# Altium integrated library Maxim Power and Battery Management.IntLib: 645 symbols (part 8 of 15)
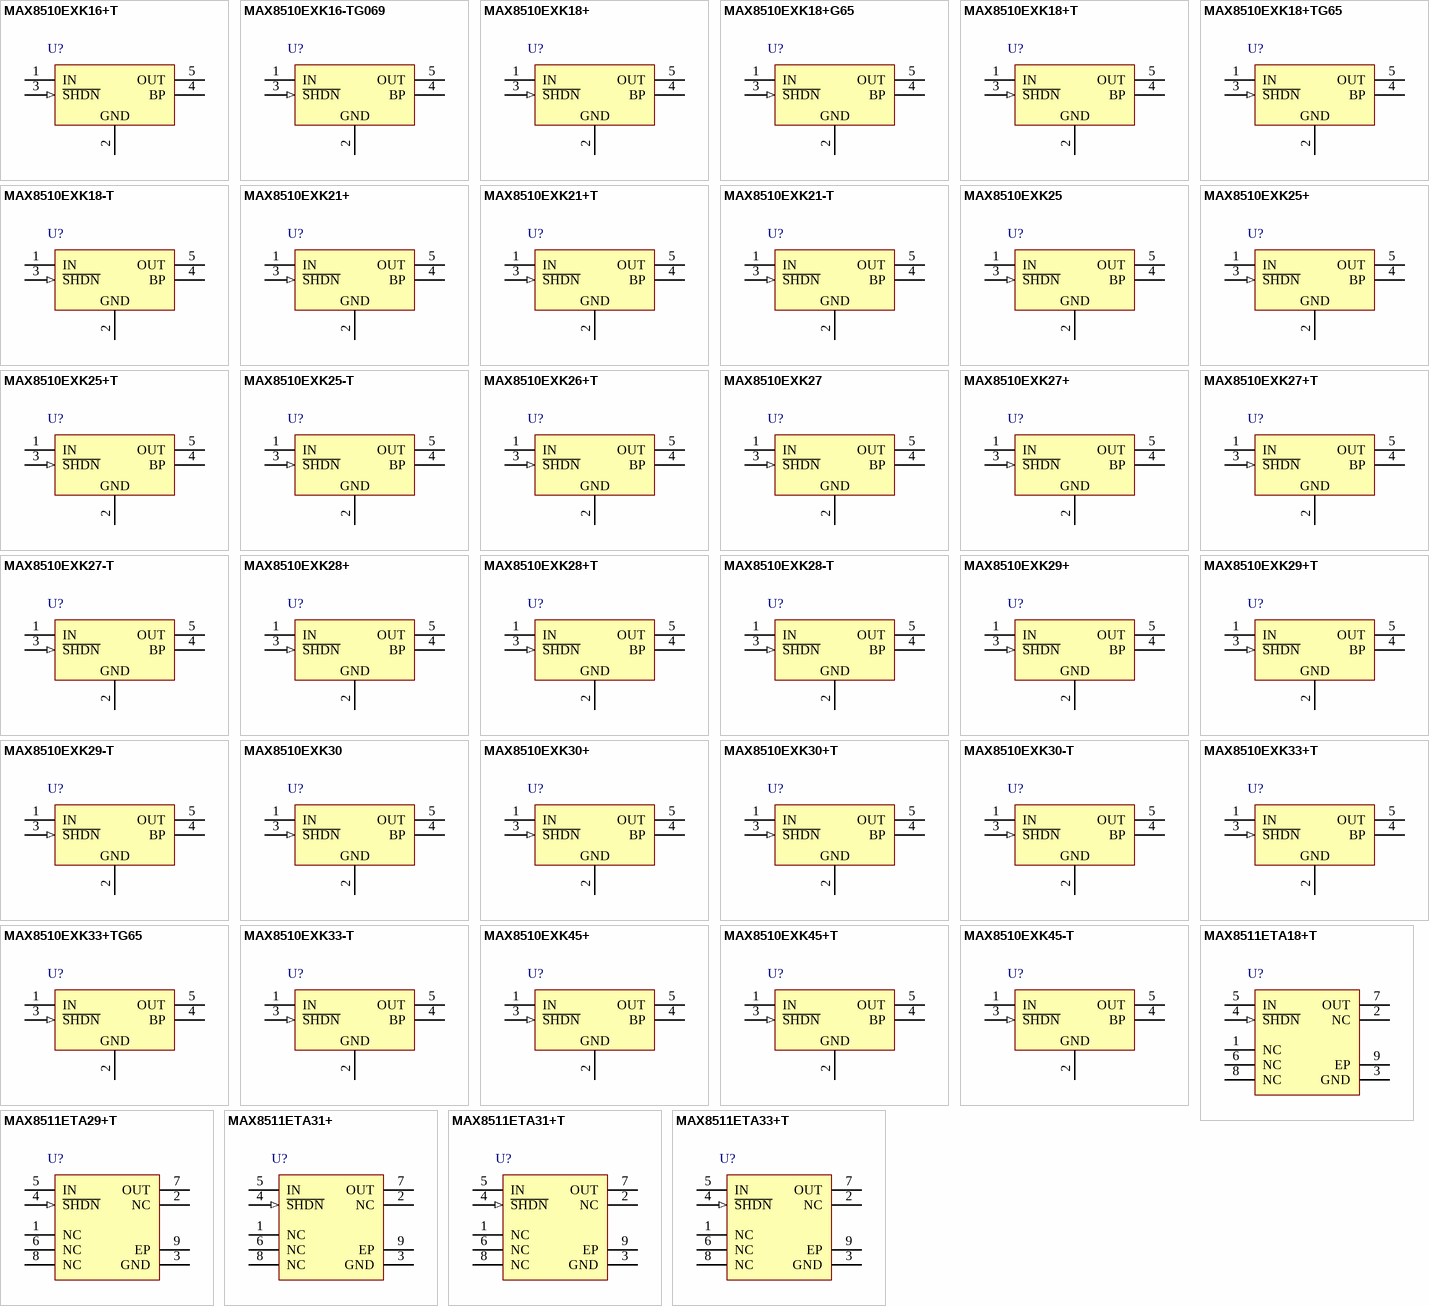
[diagram p26: symbols MAX8510EXK16+T to MAX8511ETA33+T]

## MAX8510EXK25-T
designator U?
Ultra-Low-Noise, High PSRR, Low-Dropout, 120mA Linear Regulator, 2.5V Out, 5-Pin SC70, -40°C to +85°C, Tape and Reel; DatasheetVersion: Rev 4, Aug-2011; PackageVersion: revE, 2006; PackageReference: X5-1; PackageDescription: 5-Pin SC70 Transistor Package, 0.65 mm Pitch, 2.2 mm Lead Span; Code_JEDEC: MO-203; ComponentLink1Description: Manufacturer URL; ComponentLink1URL: http://www.maxim-ic.com; ComponentLink2Description: Datasheet; ComponentLink2URL: http://datasheets.maxim-ic.com/en/ds/MAX8510-MAX8512.pdf; ComponentLink3Description: Package Specification; ComponentLink3URL: http://pdfserv.maxim-ic.com/package_dwgs/21-0076.PDF
footprint X5-1_N (SOT353, 5-Leads, Body 2x1.3mm, Pitch 0.65mm, Lead Span 2.1mm, IPC Medium Density)
footprint X5-1_L (SOT353, 5-Leads, Body 2x1.3mm, Pitch 0.65mm, Lead Span 2.1mm, IPC High Density)
footprint X5-1_M (SOT353, 5-Leads, Body 2x1.3mm, Pitch 0.65mm, Lead Span 2.1mm, IPC Low Density)
pins: 1 IN (power), 2 GND (power), 3 ~{SHDN} (in), 4 BP, 5 OUT (power)

## MAX8510EXK26+T
designator U?
Ultra-Low-Noise, High PSRR, Low-Dropout, 120mA Linear Regulator, 2.6V Out, 5-Pin SC70, -40°C to +85°C, Pb-Free, Tape and Reel; DatasheetVersion: Rev 4, Aug-2011; PackageVersion: revE, 2006; PackageReference: X5+1; PackageDescription: 5-Pin SC70 Transistor Package, 0.65 mm Pitch, 2.2 mm Lead Span; Code_JEDEC: MO-203; ComponentLink1Description: Manufacturer URL; ComponentLink1URL: http://www.maxim-ic.com; ComponentLink2Description: Datasheet; ComponentLink2URL: http://datasheets.maxim-ic.com/en/ds/MAX8510-MAX8512.pdf; ComponentLink3Description: Package Specification; ComponentLink3URL: http://pdfserv.maxim-ic.com/package_dwgs/21-0076.PDF
footprint X5+1_N (SOT353, 5-Leads, Body 2x1.3mm, Pitch 0.65mm, Lead Span 2.1mm, IPC Medium Density)
footprint X5+1_L (SOT353, 5-Leads, Body 2x1.3mm, Pitch 0.65mm, Lead Span 2.1mm, IPC High Density)
footprint X5+1_M (SOT353, 5-Leads, Body 2x1.3mm, Pitch 0.65mm, Lead Span 2.1mm, IPC Low Density)
pins: 1 IN (power), 2 GND (power), 3 ~{SHDN} (in), 4 BP, 5 OUT (power)

## MAX8510EXK27
designator U?
Ultra-Low-Noise, High PSRR, Low-Dropout, 120mA Linear Regulator, 2.7V Out, 5-Pin SC70, -40°C to +85°C; DatasheetVersion: Rev 4, Aug-2011; PackageVersion: revE, 2006; PackageReference: X5-1; PackageDescription: 5-Pin SC70 Transistor Package, 0.65 mm Pitch, 2.2 mm Lead Span; Code_JEDEC: MO-203; ComponentLink1Description: Manufacturer URL; ComponentLink1URL: http://www.maxim-ic.com; ComponentLink2Description: Datasheet; ComponentLink2URL: http://datasheets.maxim-ic.com/en/ds/MAX8510-MAX8512.pdf; ComponentLink3Description: Package Specification; ComponentLink3URL: http://pdfserv.maxim-ic.com/package_dwgs/21-0076.PDF
footprint X5-1_N (SOT353, 5-Leads, Body 2x1.3mm, Pitch 0.65mm, Lead Span 2.1mm, IPC Medium Density)
footprint X5-1_L (SOT353, 5-Leads, Body 2x1.3mm, Pitch 0.65mm, Lead Span 2.1mm, IPC High Density)
footprint X5-1_M (SOT353, 5-Leads, Body 2x1.3mm, Pitch 0.65mm, Lead Span 2.1mm, IPC Low Density)
pins: 1 IN (power), 2 GND (power), 3 ~{SHDN} (in), 4 BP, 5 OUT (power)

## MAX8510EXK27+
designator U?
Ultra-Low-Noise, High PSRR, Low-Dropout, 120mA Linear Regulator, 2.7V Out, 5-Pin SC70, -40°C to +85°C, Pb-Free; DatasheetVersion: Rev 4, Aug-2011; PackageVersion: revE, 2006; PackageReference: X5+1; PackageDescription: 5-Pin SC70 Transistor Package, 0.65 mm Pitch, 2.2 mm Lead Span; Code_JEDEC: MO-203; ComponentLink1Description: Manufacturer URL; ComponentLink1URL: http://www.maxim-ic.com; ComponentLink2Description: Datasheet; ComponentLink2URL: http://datasheets.maxim-ic.com/en/ds/MAX8510-MAX8512.pdf; ComponentLink3Description: Package Specification; ComponentLink3URL: http://pdfserv.maxim-ic.com/package_dwgs/21-0076.PDF
footprint X5+1_N (SOT353, 5-Leads, Body 2x1.3mm, Pitch 0.65mm, Lead Span 2.1mm, IPC Medium Density)
footprint X5+1_L (SOT353, 5-Leads, Body 2x1.3mm, Pitch 0.65mm, Lead Span 2.1mm, IPC High Density)
footprint X5+1_M (SOT353, 5-Leads, Body 2x1.3mm, Pitch 0.65mm, Lead Span 2.1mm, IPC Low Density)
pins: 1 IN (power), 2 GND (power), 3 ~{SHDN} (in), 4 BP, 5 OUT (power)

## MAX8510EXK27+T
designator U?
Ultra-Low-Noise, High PSRR, Low-Dropout, 120mA Linear Regulator, 2.7V Out, 5-Pin SC70, -40°C to +85°C, Pb-Free, Tape and Reel; DatasheetVersion: Rev 4, Aug-2011; PackageVersion: revE, 2006; PackageReference: X5+1; PackageDescription: 5-Pin SC70 Transistor Package, 0.65 mm Pitch, 2.2 mm Lead Span; Code_JEDEC: MO-203; ComponentLink1Description: Manufacturer URL; ComponentLink1URL: http://www.maxim-ic.com; ComponentLink2Description: Datasheet; ComponentLink2URL: http://datasheets.maxim-ic.com/en/ds/MAX8510-MAX8512.pdf; ComponentLink3Description: Package Specification; ComponentLink3URL: http://pdfserv.maxim-ic.com/package_dwgs/21-0076.PDF
footprint X5+1_N (SOT353, 5-Leads, Body 2x1.3mm, Pitch 0.65mm, Lead Span 2.1mm, IPC Medium Density)
footprint X5+1_L (SOT353, 5-Leads, Body 2x1.3mm, Pitch 0.65mm, Lead Span 2.1mm, IPC High Density)
footprint X5+1_M (SOT353, 5-Leads, Body 2x1.3mm, Pitch 0.65mm, Lead Span 2.1mm, IPC Low Density)
pins: 1 IN (power), 2 GND (power), 3 ~{SHDN} (in), 4 BP, 5 OUT (power)

## MAX8510EXK27-T
designator U?
Ultra-Low-Noise, High PSRR, Low-Dropout, 120mA Linear Regulator, 2.7V Out, 5-Pin SC70, -40°C to +85°C, Tape and Reel; DatasheetVersion: Rev 4, Aug-2011; PackageVersion: revE, 2006; PackageReference: X5-1; PackageDescription: 5-Pin SC70 Transistor Package, 0.65 mm Pitch, 2.2 mm Lead Span; Code_JEDEC: MO-203; ComponentLink1Description: Manufacturer URL; ComponentLink1URL: http://www.maxim-ic.com; ComponentLink2Description: Datasheet; ComponentLink2URL: http://datasheets.maxim-ic.com/en/ds/MAX8510-MAX8512.pdf; ComponentLink3Description: Package Specification; ComponentLink3URL: http://pdfserv.maxim-ic.com/package_dwgs/21-0076.PDF
footprint X5-1_N (SOT353, 5-Leads, Body 2x1.3mm, Pitch 0.65mm, Lead Span 2.1mm, IPC Medium Density)
footprint X5-1_L (SOT353, 5-Leads, Body 2x1.3mm, Pitch 0.65mm, Lead Span 2.1mm, IPC High Density)
footprint X5-1_M (SOT353, 5-Leads, Body 2x1.3mm, Pitch 0.65mm, Lead Span 2.1mm, IPC Low Density)
pins: 1 IN (power), 2 GND (power), 3 ~{SHDN} (in), 4 BP, 5 OUT (power)

## MAX8510EXK28+
designator U?
Ultra-Low-Noise, High PSRR, Low-Dropout, 120mA Linear Regulator, 2.8V Out, 5-Pin SC70, -40°C to +85°C, Pb-Free; DatasheetVersion: Rev 4, Aug-2011; PackageVersion: revE, 2006; PackageReference: X5+1; PackageDescription: 5-Pin SC70 Transistor Package, 0.65 mm Pitch, 2.2 mm Lead Span; Code_JEDEC: MO-203; ComponentLink1Description: Manufacturer URL; ComponentLink1URL: http://www.maxim-ic.com; ComponentLink2Description: Datasheet; ComponentLink2URL: http://datasheets.maxim-ic.com/en/ds/MAX8510-MAX8512.pdf; ComponentLink3Description: Package Specification; ComponentLink3URL: http://pdfserv.maxim-ic.com/package_dwgs/21-0076.PDF
footprint X5+1_N (SOT353, 5-Leads, Body 2x1.3mm, Pitch 0.65mm, Lead Span 2.1mm, IPC Medium Density)
footprint X5+1_L (SOT353, 5-Leads, Body 2x1.3mm, Pitch 0.65mm, Lead Span 2.1mm, IPC High Density)
footprint X5+1_M (SOT353, 5-Leads, Body 2x1.3mm, Pitch 0.65mm, Lead Span 2.1mm, IPC Low Density)
pins: 1 IN (power), 2 GND (power), 3 ~{SHDN} (in), 4 BP, 5 OUT (power)

## MAX8510EXK28+T
designator U?
Ultra-Low-Noise, High PSRR, Low-Dropout, 120mA Linear Regulator, 2.8V Out, 5-Pin SC70, -40°C to +85°C, Pb-Free, Tape and Reel; DatasheetVersion: Rev 4, Aug-2011; PackageVersion: revE, 2006; PackageReference: X5+1; PackageDescription: 5-Pin SC70 Transistor Package, 0.65 mm Pitch, 2.2 mm Lead Span; Code_JEDEC: MO-203; ComponentLink1Description: Manufacturer URL; ComponentLink1URL: http://www.maxim-ic.com; ComponentLink2Description: Datasheet; ComponentLink2URL: http://datasheets.maxim-ic.com/en/ds/MAX8510-MAX8512.pdf; ComponentLink3Description: Package Specification; ComponentLink3URL: http://pdfserv.maxim-ic.com/package_dwgs/21-0076.PDF
footprint X5+1_N (SOT353, 5-Leads, Body 2x1.3mm, Pitch 0.65mm, Lead Span 2.1mm, IPC Medium Density)
footprint X5+1_L (SOT353, 5-Leads, Body 2x1.3mm, Pitch 0.65mm, Lead Span 2.1mm, IPC High Density)
footprint X5+1_M (SOT353, 5-Leads, Body 2x1.3mm, Pitch 0.65mm, Lead Span 2.1mm, IPC Low Density)
pins: 1 IN (power), 2 GND (power), 3 ~{SHDN} (in), 4 BP, 5 OUT (power)

## MAX8510EXK28-T
designator U?
Ultra-Low-Noise, High PSRR, Low-Dropout, 120mA Linear Regulator, 2.8V Out, 5-Pin SC70, -40°C to +85°C, Tape and Reel; DatasheetVersion: Rev 4, Aug-2011; PackageVersion: revE, 2006; PackageReference: X5-1; PackageDescription: 5-Pin SC70 Transistor Package, 0.65 mm Pitch, 2.2 mm Lead Span; Code_JEDEC: MO-203; ComponentLink1Description: Manufacturer URL; ComponentLink1URL: http://www.maxim-ic.com; ComponentLink2Description: Datasheet; ComponentLink2URL: http://datasheets.maxim-ic.com/en/ds/MAX8510-MAX8512.pdf; ComponentLink3Description: Package Specification; ComponentLink3URL: http://pdfserv.maxim-ic.com/package_dwgs/21-0076.PDF
footprint X5-1_N (SOT353, 5-Leads, Body 2x1.3mm, Pitch 0.65mm, Lead Span 2.1mm, IPC Medium Density)
footprint X5-1_L (SOT353, 5-Leads, Body 2x1.3mm, Pitch 0.65mm, Lead Span 2.1mm, IPC High Density)
footprint X5-1_M (SOT353, 5-Leads, Body 2x1.3mm, Pitch 0.65mm, Lead Span 2.1mm, IPC Low Density)
pins: 1 IN (power), 2 GND (power), 3 ~{SHDN} (in), 4 BP, 5 OUT (power)

## MAX8510EXK29+
designator U?
Ultra-Low-Noise, High PSRR, Low-Dropout, 120mA Linear Regulator, 2.85V Out, 5-Pin SC70, -40°C to +85°C, Pb-Free; DatasheetVersion: Rev 4, Aug-2011; PackageVersion: revE, 2006; PackageReference: X5+1; PackageDescription: 5-Pin SC70 Transistor Package, 0.65 mm Pitch, 2.2 mm Lead Span; Code_JEDEC: MO-203; ComponentLink1Description: Manufacturer URL; ComponentLink1URL: http://www.maxim-ic.com; ComponentLink2Description: Datasheet; ComponentLink2URL: http://datasheets.maxim-ic.com/en/ds/MAX8510-MAX8512.pdf; ComponentLink3Description: Package Specification; ComponentLink3URL: http://pdfserv.maxim-ic.com/package_dwgs/21-0076.PDF
footprint X5+1_N (SOT353, 5-Leads, Body 2x1.3mm, Pitch 0.65mm, Lead Span 2.1mm, IPC Medium Density)
footprint X5+1_L (SOT353, 5-Leads, Body 2x1.3mm, Pitch 0.65mm, Lead Span 2.1mm, IPC High Density)
footprint X5+1_M (SOT353, 5-Leads, Body 2x1.3mm, Pitch 0.65mm, Lead Span 2.1mm, IPC Low Density)
pins: 1 IN (power), 2 GND (power), 3 ~{SHDN} (in), 4 BP, 5 OUT (power)

## MAX8510EXK29+T
designator U?
Ultra-Low-Noise, High PSRR, Low-Dropout, 120mA Linear Regulator, 2.85V Out, 5-Pin SC70, -40°C to +85°C, Pb-Free, Tape and Reel; DatasheetVersion: Rev 4, Aug-2011; PackageVersion: revE, 2006; PackageReference: X5+1; PackageDescription: 5-Pin SC70 Transistor Package, 0.65 mm Pitch, 2.2 mm Lead Span; Code_JEDEC: MO-203; ComponentLink1Description: Manufacturer URL; ComponentLink1URL: http://www.maxim-ic.com; ComponentLink2Description: Datasheet; ComponentLink2URL: http://datasheets.maxim-ic.com/en/ds/MAX8510-MAX8512.pdf; ComponentLink3Description: Package Specification; ComponentLink3URL: http://pdfserv.maxim-ic.com/package_dwgs/21-0076.PDF
footprint X5+1_N (SOT353, 5-Leads, Body 2x1.3mm, Pitch 0.65mm, Lead Span 2.1mm, IPC Medium Density)
footprint X5+1_L (SOT353, 5-Leads, Body 2x1.3mm, Pitch 0.65mm, Lead Span 2.1mm, IPC High Density)
footprint X5+1_M (SOT353, 5-Leads, Body 2x1.3mm, Pitch 0.65mm, Lead Span 2.1mm, IPC Low Density)
pins: 1 IN (power), 2 GND (power), 3 ~{SHDN} (in), 4 BP, 5 OUT (power)

## MAX8510EXK29-T
designator U?
Ultra-Low-Noise, High PSRR, Low-Dropout, 120mA Linear Regulator, 2.85V Out, 5-Pin SC70, -40°C to +85°C, Tape and Reel; DatasheetVersion: Rev 4, Aug-2011; PackageVersion: revE, 2006; PackageReference: X5-1; PackageDescription: 5-Pin SC70 Transistor Package, 0.65 mm Pitch, 2.2 mm Lead Span; Code_JEDEC: MO-203; ComponentLink1Description: Manufacturer URL; ComponentLink1URL: http://www.maxim-ic.com; ComponentLink2Description: Datasheet; ComponentLink2URL: http://datasheets.maxim-ic.com/en/ds/MAX8510-MAX8512.pdf; ComponentLink3Description: Package Specification; ComponentLink3URL: http://pdfserv.maxim-ic.com/package_dwgs/21-0076.PDF
footprint X5-1_N (SOT353, 5-Leads, Body 2x1.3mm, Pitch 0.65mm, Lead Span 2.1mm, IPC Medium Density)
footprint X5-1_L (SOT353, 5-Leads, Body 2x1.3mm, Pitch 0.65mm, Lead Span 2.1mm, IPC High Density)
footprint X5-1_M (SOT353, 5-Leads, Body 2x1.3mm, Pitch 0.65mm, Lead Span 2.1mm, IPC Low Density)
pins: 1 IN (power), 2 GND (power), 3 ~{SHDN} (in), 4 BP, 5 OUT (power)

## MAX8510EXK30
designator U?
Ultra-Low-Noise, High PSRR, Low-Dropout, 120mA Linear Regulator, 3V Out, 5-Pin SC70, -40°C to +85°C; DatasheetVersion: Rev 4, Aug-2011; PackageVersion: revE, 2006; PackageReference: X5-1; PackageDescription: 5-Pin SC70 Transistor Package, 0.65 mm Pitch, 2.2 mm Lead Span; Code_JEDEC: MO-203; ComponentLink1Description: Manufacturer URL; ComponentLink1URL: http://www.maxim-ic.com; ComponentLink2Description: Datasheet; ComponentLink2URL: http://datasheets.maxim-ic.com/en/ds/MAX8510-MAX8512.pdf; ComponentLink3Description: Package Specification; ComponentLink3URL: http://pdfserv.maxim-ic.com/package_dwgs/21-0076.PDF
footprint X5-1_N (SOT353, 5-Leads, Body 2x1.3mm, Pitch 0.65mm, Lead Span 2.1mm, IPC Medium Density)
footprint X5-1_L (SOT353, 5-Leads, Body 2x1.3mm, Pitch 0.65mm, Lead Span 2.1mm, IPC High Density)
footprint X5-1_M (SOT353, 5-Leads, Body 2x1.3mm, Pitch 0.65mm, Lead Span 2.1mm, IPC Low Density)
pins: 1 IN (power), 2 GND (power), 3 ~{SHDN} (in), 4 BP, 5 OUT (power)

## MAX8510EXK30+
designator U?
Ultra-Low-Noise, High PSRR, Low-Dropout, 120mA Linear Regulator, 3V Out, 5-Pin SC70, -40°C to +85°C, Pb-Free; DatasheetVersion: Rev 4, Aug-2011; PackageVersion: revE, 2006; PackageReference: X5+1; PackageDescription: 5-Pin SC70 Transistor Package, 0.65 mm Pitch, 2.2 mm Lead Span; Code_JEDEC: MO-203; ComponentLink1Description: Manufacturer URL; ComponentLink1URL: http://www.maxim-ic.com; ComponentLink2Description: Datasheet; ComponentLink2URL: http://datasheets.maxim-ic.com/en/ds/MAX8510-MAX8512.pdf; ComponentLink3Description: Package Specification; ComponentLink3URL: http://pdfserv.maxim-ic.com/package_dwgs/21-0076.PDF
footprint X5+1_N (SOT353, 5-Leads, Body 2x1.3mm, Pitch 0.65mm, Lead Span 2.1mm, IPC Medium Density)
footprint X5+1_L (SOT353, 5-Leads, Body 2x1.3mm, Pitch 0.65mm, Lead Span 2.1mm, IPC High Density)
footprint X5+1_M (SOT353, 5-Leads, Body 2x1.3mm, Pitch 0.65mm, Lead Span 2.1mm, IPC Low Density)
pins: 1 IN (power), 2 GND (power), 3 ~{SHDN} (in), 4 BP, 5 OUT (power)

## MAX8510EXK30+T
designator U?
Ultra-Low-Noise, High PSRR, Low-Dropout, 120mA Linear Regulator, 3V Out, 5-Pin SC70, -40°C to +85°C, Pb-Free, Tape and Reel; DatasheetVersion: Rev 4, Aug-2011; PackageVersion: revE, 2006; PackageReference: X5+1; PackageDescription: 5-Pin SC70 Transistor Package, 0.65 mm Pitch, 2.2 mm Lead Span; Code_JEDEC: MO-203; ComponentLink1Description: Manufacturer URL; ComponentLink1URL: http://www.maxim-ic.com; ComponentLink2Description: Datasheet; ComponentLink2URL: http://datasheets.maxim-ic.com/en/ds/MAX8510-MAX8512.pdf; ComponentLink3Description: Package Specification; ComponentLink3URL: http://pdfserv.maxim-ic.com/package_dwgs/21-0076.PDF
footprint X5+1_N (SOT353, 5-Leads, Body 2x1.3mm, Pitch 0.65mm, Lead Span 2.1mm, IPC Medium Density)
footprint X5+1_L (SOT353, 5-Leads, Body 2x1.3mm, Pitch 0.65mm, Lead Span 2.1mm, IPC High Density)
footprint X5+1_M (SOT353, 5-Leads, Body 2x1.3mm, Pitch 0.65mm, Lead Span 2.1mm, IPC Low Density)
pins: 1 IN (power), 2 GND (power), 3 ~{SHDN} (in), 4 BP, 5 OUT (power)

## MAX8510EXK30-T
designator U?
Ultra-Low-Noise, High PSRR, Low-Dropout, 120mA Linear Regulator, 3V Out, 5-Pin SC70, -40°C to +85°C, Tape and Reel; DatasheetVersion: Rev 4, Aug-2011; PackageVersion: revE, 2006; PackageReference: X5-1; PackageDescription: 5-Pin SC70 Transistor Package, 0.65 mm Pitch, 2.2 mm Lead Span; Code_JEDEC: MO-203; ComponentLink1Description: Manufacturer URL; ComponentLink1URL: http://www.maxim-ic.com; ComponentLink2Description: Datasheet; ComponentLink2URL: http://datasheets.maxim-ic.com/en/ds/MAX8510-MAX8512.pdf; ComponentLink3Description: Package Specification; ComponentLink3URL: http://pdfserv.maxim-ic.com/package_dwgs/21-0076.PDF
footprint X5-1_N (SOT353, 5-Leads, Body 2x1.3mm, Pitch 0.65mm, Lead Span 2.1mm, IPC Medium Density)
footprint X5-1_L (SOT353, 5-Leads, Body 2x1.3mm, Pitch 0.65mm, Lead Span 2.1mm, IPC High Density)
footprint X5-1_M (SOT353, 5-Leads, Body 2x1.3mm, Pitch 0.65mm, Lead Span 2.1mm, IPC Low Density)
pins: 1 IN (power), 2 GND (power), 3 ~{SHDN} (in), 4 BP, 5 OUT (power)

## MAX8510EXK33+T
designator U?
Ultra-Low-Noise, High PSRR, Low-Dropout, 120mA Linear Regulator, 3.3V Out, 5-Pin SC70, -40°C to +85°C, Pb-Free, Tape and Reel; DatasheetVersion: Rev 4, Aug-2011; PackageVersion: revE, 2006; PackageReference: X5+1; PackageDescription: 5-Pin SC70 Transistor Package, 0.65 mm Pitch, 2.2 mm Lead Span; Code_JEDEC: MO-203; ComponentLink1Description: Manufacturer URL; ComponentLink1URL: http://www.maxim-ic.com; ComponentLink2Description: Datasheet; ComponentLink2URL: http://datasheets.maxim-ic.com/en/ds/MAX8510-MAX8512.pdf; ComponentLink3Description: Package Specification; ComponentLink3URL: http://pdfserv.maxim-ic.com/package_dwgs/21-0076.PDF
footprint X5+1_N (SOT353, 5-Leads, Body 2x1.3mm, Pitch 0.65mm, Lead Span 2.1mm, IPC Medium Density)
footprint X5+1_L (SOT353, 5-Leads, Body 2x1.3mm, Pitch 0.65mm, Lead Span 2.1mm, IPC High Density)
footprint X5+1_M (SOT353, 5-Leads, Body 2x1.3mm, Pitch 0.65mm, Lead Span 2.1mm, IPC Low Density)
pins: 1 IN (power), 2 GND (power), 3 ~{SHDN} (in), 4 BP, 5 OUT (power)

## MAX8510EXK33+TG65
designator U?
Ultra-Low-Noise, High PSRR, Low-Dropout, 120mA Linear Regulator, 3.3V Out, 5-Pin SC70, -40°C to +85°C, Pb-Free, Tape and Reel; DatasheetVersion: Rev 4, Aug-2011; PackageVersion: revE, 2006; PackageReference: X5+1; PackageDescription: 5-Pin SC70 Transistor Package, 0.65 mm Pitch, 2.2 mm Lead Span; Code_JEDEC: MO-203; ComponentLink1Description: Manufacturer URL; ComponentLink1URL: http://www.maxim-ic.com; ComponentLink2Description: Datasheet; ComponentLink2URL: http://datasheets.maxim-ic.com/en/ds/MAX8510-MAX8512.pdf; ComponentLink3Description: Package Specification; ComponentLink3URL: http://pdfserv.maxim-ic.com/package_dwgs/21-0076.PDF
footprint X5+1_N (SOT353, 5-Leads, Body 2x1.3mm, Pitch 0.65mm, Lead Span 2.1mm, IPC Medium Density)
footprint X5+1_L (SOT353, 5-Leads, Body 2x1.3mm, Pitch 0.65mm, Lead Span 2.1mm, IPC High Density)
footprint X5+1_M (SOT353, 5-Leads, Body 2x1.3mm, Pitch 0.65mm, Lead Span 2.1mm, IPC Low Density)
pins: 1 IN (power), 2 GND (power), 3 ~{SHDN} (in), 4 BP, 5 OUT (power)

## MAX8510EXK33-T
designator U?
Ultra-Low-Noise, High PSRR, Low-Dropout, 120mA Linear Regulator, 3.3V Out, 5-Pin SC70, -40°C to +85°C, Tape and Reel; DatasheetVersion: Rev 4, Aug-2011; PackageVersion: revE, 2006; PackageReference: X5-1; PackageDescription: 5-Pin SC70 Transistor Package, 0.65 mm Pitch, 2.2 mm Lead Span; Code_JEDEC: MO-203; ComponentLink1Description: Manufacturer URL; ComponentLink1URL: http://www.maxim-ic.com; ComponentLink2Description: Datasheet; ComponentLink2URL: http://datasheets.maxim-ic.com/en/ds/MAX8510-MAX8512.pdf; ComponentLink3Description: Package Specification; ComponentLink3URL: http://pdfserv.maxim-ic.com/package_dwgs/21-0076.PDF
footprint X5-1_N (SOT353, 5-Leads, Body 2x1.3mm, Pitch 0.65mm, Lead Span 2.1mm, IPC Medium Density)
footprint X5-1_L (SOT353, 5-Leads, Body 2x1.3mm, Pitch 0.65mm, Lead Span 2.1mm, IPC High Density)
footprint X5-1_M (SOT353, 5-Leads, Body 2x1.3mm, Pitch 0.65mm, Lead Span 2.1mm, IPC Low Density)
pins: 1 IN (power), 2 GND (power), 3 ~{SHDN} (in), 4 BP, 5 OUT (power)

## MAX8510EXK45+
designator U?
Ultra-Low-Noise, High PSRR, Low-Dropout, 120mA Linear Regulator, 4.5V Out, 5-Pin SC70, -40°C to +85°C, Pb-Free; DatasheetVersion: Rev 4, Aug-2011; PackageVersion: revE, 2006; PackageReference: X5+1; PackageDescription: 5-Pin SC70 Transistor Package, 0.65 mm Pitch, 2.2 mm Lead Span; Code_JEDEC: MO-203; ComponentLink1Description: Manufacturer URL; ComponentLink1URL: http://www.maxim-ic.com; ComponentLink2Description: Datasheet; ComponentLink2URL: http://datasheets.maxim-ic.com/en/ds/MAX8510-MAX8512.pdf; ComponentLink3Description: Package Specification; ComponentLink3URL: http://pdfserv.maxim-ic.com/package_dwgs/21-0076.PDF
footprint X5+1_N (SOT353, 5-Leads, Body 2x1.3mm, Pitch 0.65mm, Lead Span 2.1mm, IPC Medium Density)
footprint X5+1_L (SOT353, 5-Leads, Body 2x1.3mm, Pitch 0.65mm, Lead Span 2.1mm, IPC High Density)
footprint X5+1_M (SOT353, 5-Leads, Body 2x1.3mm, Pitch 0.65mm, Lead Span 2.1mm, IPC Low Density)
pins: 1 IN (power), 2 GND (power), 3 ~{SHDN} (in), 4 BP, 5 OUT (power)

## MAX8510EXK45+T
designator U?
Ultra-Low-Noise, High PSRR, Low-Dropout, 120mA Linear Regulator, 4.5V Out, 5-Pin SC70, -40°C to +85°C, Pb-Free, Tape and Reel; DatasheetVersion: Rev 4, Aug-2011; PackageVersion: revE, 2006; PackageReference: X5+1; PackageDescription: 5-Pin SC70 Transistor Package, 0.65 mm Pitch, 2.2 mm Lead Span; Code_JEDEC: MO-203; ComponentLink1Description: Manufacturer URL; ComponentLink1URL: http://www.maxim-ic.com; ComponentLink2Description: Datasheet; ComponentLink2URL: http://datasheets.maxim-ic.com/en/ds/MAX8510-MAX8512.pdf; ComponentLink3Description: Package Specification; ComponentLink3URL: http://pdfserv.maxim-ic.com/package_dwgs/21-0076.PDF
footprint X5+1_N (SOT353, 5-Leads, Body 2x1.3mm, Pitch 0.65mm, Lead Span 2.1mm, IPC Medium Density)
footprint X5+1_L (SOT353, 5-Leads, Body 2x1.3mm, Pitch 0.65mm, Lead Span 2.1mm, IPC High Density)
footprint X5+1_M (SOT353, 5-Leads, Body 2x1.3mm, Pitch 0.65mm, Lead Span 2.1mm, IPC Low Density)
pins: 1 IN (power), 2 GND (power), 3 ~{SHDN} (in), 4 BP, 5 OUT (power)

## MAX8510EXK45-T
designator U?
Ultra-Low-Noise, High PSRR, Low-Dropout, 120mA Linear Regulator, 4.5V Out, 5-Pin SC70, -40°C to +85°C, Tape and Reel; DatasheetVersion: Rev 4, Aug-2011; PackageVersion: revE, 2006; PackageReference: X5-1; PackageDescription: 5-Pin SC70 Transistor Package, 0.65 mm Pitch, 2.2 mm Lead Span; Code_JEDEC: MO-203; ComponentLink1Description: Manufacturer URL; ComponentLink1URL: http://www.maxim-ic.com; ComponentLink2Description: Datasheet; ComponentLink2URL: http://datasheets.maxim-ic.com/en/ds/MAX8510-MAX8512.pdf; ComponentLink3Description: Package Specification; ComponentLink3URL: http://pdfserv.maxim-ic.com/package_dwgs/21-0076.PDF
footprint X5-1_N (SOT353, 5-Leads, Body 2x1.3mm, Pitch 0.65mm, Lead Span 2.1mm, IPC Medium Density)
footprint X5-1_L (SOT353, 5-Leads, Body 2x1.3mm, Pitch 0.65mm, Lead Span 2.1mm, IPC High Density)
footprint X5-1_M (SOT353, 5-Leads, Body 2x1.3mm, Pitch 0.65mm, Lead Span 2.1mm, IPC Low Density)
pins: 1 IN (power), 2 GND (power), 3 ~{SHDN} (in), 4 BP, 5 OUT (power)

## MAX8511ETA18+T
designator U?
Ultra-Low-Noise, High PSRR, Low-Dropout, 120mA Linear Regulator, 1.8V Out, 8-Pin TDFN-EP, -40°C to +85°C, Pb-Free, Tape and Reel; DatasheetVersion: Rev 4, Aug-2011; PackageVersion: revF, 2011; PackageReference: T822+1; PackageDescription: 8-Pin Plastic Very Very Thin Dual Flatpack, No Leads, 2 x 2 x 0.75 mm Body, 0.5 mm Pitch, TDFN, Pb-Free; Code_JEDEC: MO-229*; ComponentLink1Description: Manufacturer URL; ComponentLink1URL: http://www.maxim-ic.com; ComponentLink2Description: Datasheet; ComponentLink2URL: http://datasheets.maxim-ic.com/en/ds/MAX8510-MAX8512.pdf; ComponentLink3Description: Package Specification; ComponentLink3URL: http://pdfserv.maxim-ic.com/package_dwgs/21-0168.PDF
footprint T822+1_N (SON, 8-Leads, Body 2x2mm, Pitch 0.5mm, Thermal Pad 1.3x0.7mm, IPC Medium Density)
footprint T822+1_L (SON, 8-Leads, Body 2x2mm, Pitch 0.5mm, Thermal Pad 1.3x0.7mm, IPC High Density)
footprint T822+1_M (SON, 8-Leads, Body 2x2mm, Pitch 0.5mm, Thermal Pad 1.3x0.7mm, IPC Low Density)
pins: 1 NC, 2 NC, 3 GND (power), 4 ~{SHDN} (in), 5 IN (power), 6 NC, 7 OUT (power), 8 NC, 9 EP (power)

## MAX8511ETA29+T
designator U?
Ultra-Low-Noise, High PSRR, Low-Dropout, 120mA Linear Regulator, 2.85V Out, 8-Pin TDFN-EP, -40°C to +85°C, Pb-Free, Tape and Reel; DatasheetVersion: Rev 4, Aug-2011; PackageVersion: revF, 2011; PackageReference: T822+1; PackageDescription: 8-Pin Plastic Very Very Thin Dual Flatpack, No Leads, 2 x 2 x 0.75 mm Body, 0.5 mm Pitch, TDFN, Pb-Free; Code_JEDEC: MO-229*; ComponentLink1Description: Manufacturer URL; ComponentLink1URL: http://www.maxim-ic.com; ComponentLink2Description: Datasheet; ComponentLink2URL: http://datasheets.maxim-ic.com/en/ds/MAX8510-MAX8512.pdf; ComponentLink3Description: Package Specification; ComponentLink3URL: http://pdfserv.maxim-ic.com/package_dwgs/21-0168.PDF
footprint T822+1_N (SON, 8-Leads, Body 2x2mm, Pitch 0.5mm, Thermal Pad 1.3x0.7mm, IPC Medium Density)
footprint T822+1_L (SON, 8-Leads, Body 2x2mm, Pitch 0.5mm, Thermal Pad 1.3x0.7mm, IPC High Density)
footprint T822+1_M (SON, 8-Leads, Body 2x2mm, Pitch 0.5mm, Thermal Pad 1.3x0.7mm, IPC Low Density)
pins: 1 NC, 2 NC, 3 GND (power), 4 ~{SHDN} (in), 5 IN (power), 6 NC, 7 OUT (power), 8 NC, 9 EP (power)

## MAX8511ETA31+
designator U?
Ultra-Low-Noise, High PSRR, Low-Dropout, 120mA Linear Regulator, 3.1V Out, 8-Pin TDFN-EP, -40°C to +85°C, Pb-Free; DatasheetVersion: Rev 4, Aug-2011; PackageVersion: revF, 2011; PackageReference: T822+1; PackageDescription: 8-Pin Plastic Very Very Thin Dual Flatpack, No Leads, 2 x 2 x 0.75 mm Body, 0.5 mm Pitch, TDFN, Pb-Free; Code_JEDEC: MO-229*; ComponentLink1Description: Manufacturer URL; ComponentLink1URL: http://www.maxim-ic.com; ComponentLink2Description: Datasheet; ComponentLink2URL: http://datasheets.maxim-ic.com/en/ds/MAX8510-MAX8512.pdf; ComponentLink3Description: Package Specification; ComponentLink3URL: http://pdfserv.maxim-ic.com/package_dwgs/21-0168.PDF
footprint T822+1_N (SON, 8-Leads, Body 2x2mm, Pitch 0.5mm, Thermal Pad 1.3x0.7mm, IPC Medium Density)
footprint T822+1_L (SON, 8-Leads, Body 2x2mm, Pitch 0.5mm, Thermal Pad 1.3x0.7mm, IPC High Density)
footprint T822+1_M (SON, 8-Leads, Body 2x2mm, Pitch 0.5mm, Thermal Pad 1.3x0.7mm, IPC Low Density)
pins: 1 NC, 2 NC, 3 GND (power), 4 ~{SHDN} (in), 5 IN (power), 6 NC, 7 OUT (power), 8 NC, 9 EP (power)

## MAX8511ETA31+T
designator U?
Ultra-Low-Noise, High PSRR, Low-Dropout, 120mA Linear Regulator, 3.1V Out, 8-Pin TDFN-EP, -40°C to +85°C, Pb-Free, Tape and Reel; DatasheetVersion: Rev 4, Aug-2011; PackageVersion: revF, 2011; PackageReference: T822+1; PackageDescription: 8-Pin Plastic Very Very Thin Dual Flatpack, No Leads, 2 x 2 x 0.75 mm Body, 0.5 mm Pitch, TDFN, Pb-Free; Code_JEDEC: MO-229*; ComponentLink1Description: Manufacturer URL; ComponentLink1URL: http://www.maxim-ic.com; ComponentLink2Description: Datasheet; ComponentLink2URL: http://datasheets.maxim-ic.com/en/ds/MAX8510-MAX8512.pdf; ComponentLink3Description: Package Specification; ComponentLink3URL: http://pdfserv.maxim-ic.com/package_dwgs/21-0168.PDF
footprint T822+1_N (SON, 8-Leads, Body 2x2mm, Pitch 0.5mm, Thermal Pad 1.3x0.7mm, IPC Medium Density)
footprint T822+1_L (SON, 8-Leads, Body 2x2mm, Pitch 0.5mm, Thermal Pad 1.3x0.7mm, IPC High Density)
footprint T822+1_M (SON, 8-Leads, Body 2x2mm, Pitch 0.5mm, Thermal Pad 1.3x0.7mm, IPC Low Density)
pins: 1 NC, 2 NC, 3 GND (power), 4 ~{SHDN} (in), 5 IN (power), 6 NC, 7 OUT (power), 8 NC, 9 EP (power)

## MAX8511ETA33+T
designator U?
Ultra-Low-Noise, High PSRR, Low-Dropout, 120mA Linear Regulator, 3.3V Out, 8-Pin TDFN-EP, -40°C to +85°C, Pb-Free, Tape and Reel; DatasheetVersion: Rev 4, Aug-2011; PackageVersion: revF, 2011; PackageReference: T822+1; PackageDescription: 8-Pin Plastic Very Very Thin Dual Flatpack, No Leads, 2 x 2 x 0.75 mm Body, 0.5 mm Pitch, TDFN, Pb-Free; Code_JEDEC: MO-229*; ComponentLink1Description: Manufacturer URL; ComponentLink1URL: http://www.maxim-ic.com; ComponentLink2Description: Datasheet; ComponentLink2URL: http://datasheets.maxim-ic.com/en/ds/MAX8510-MAX8512.pdf; ComponentLink3Description: Package Specification; ComponentLink3URL: http://pdfserv.maxim-ic.com/package_dwgs/21-0168.PDF
footprint T822+1_N (SON, 8-Leads, Body 2x2mm, Pitch 0.5mm, Thermal Pad 1.3x0.7mm, IPC Medium Density)
footprint T822+1_L (SON, 8-Leads, Body 2x2mm, Pitch 0.5mm, Thermal Pad 1.3x0.7mm, IPC High Density)
footprint T822+1_M (SON, 8-Leads, Body 2x2mm, Pitch 0.5mm, Thermal Pad 1.3x0.7mm, IPC Low Density)
pins: 1 NC, 2 NC, 3 GND (power), 4 ~{SHDN} (in), 5 IN (power), 6 NC, 7 OUT (power), 8 NC, 9 EP (power)

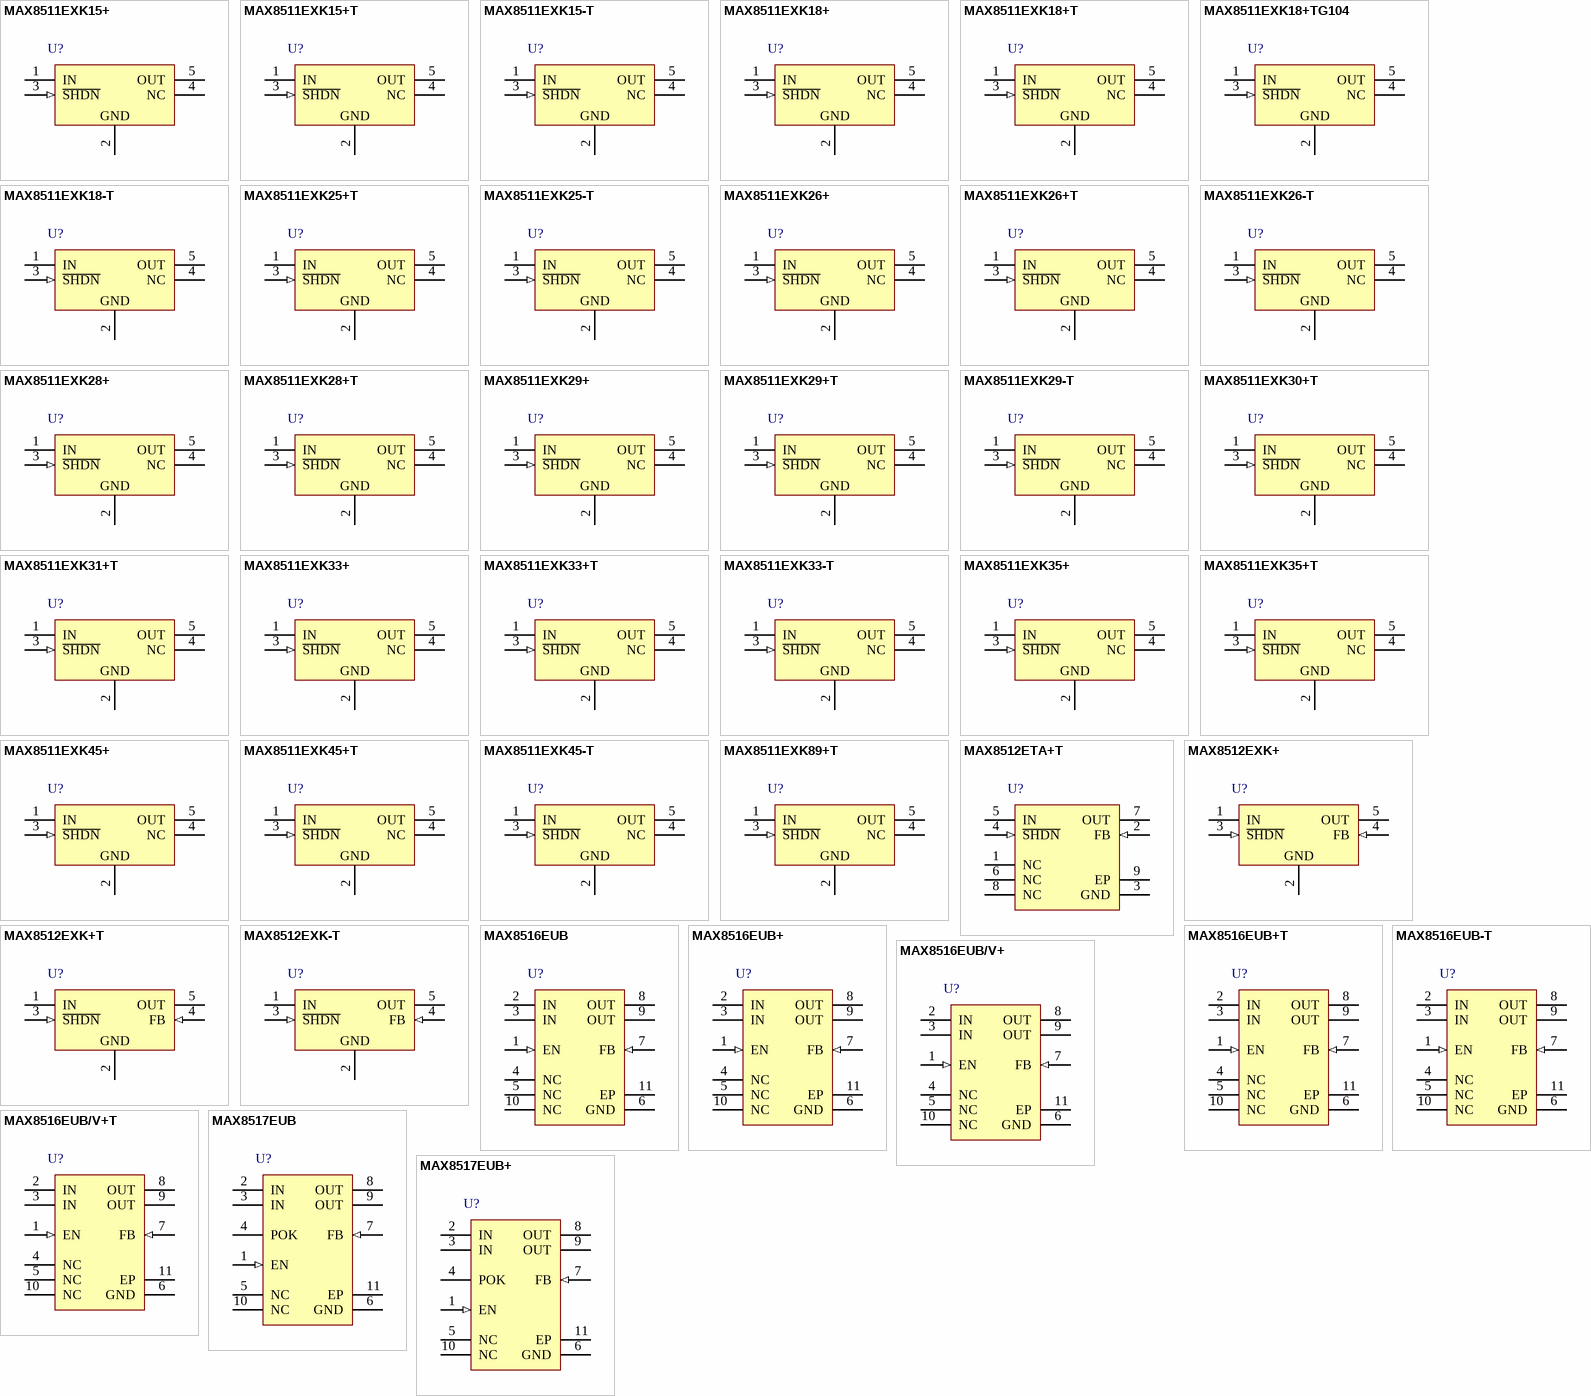
[diagram p10: symbols MAX8511EXK15+ to MAX8517EUB+]

## MAX8511EXK15+
designator U?
Ultra-Low-Noise, High PSRR, Low-Dropout, 120mA Linear Regulator, 1.5V Out, 5-Pin SC70, -40°C to +85°C, Pb-Free; DatasheetVersion: Rev 4, Aug-2011; PackageVersion: revE, 2006; PackageReference: X5+1; PackageDescription: 5-Pin SC70 Transistor Package, 0.65 mm Pitch, 2.2 mm Lead Span; Code_JEDEC: MO-203; ComponentLink1Description: Manufacturer URL; ComponentLink1URL: http://www.maxim-ic.com; ComponentLink2Description: Datasheet; ComponentLink2URL: http://datasheets.maxim-ic.com/en/ds/MAX8510-MAX8512.pdf; ComponentLink3Description: Package Specification; ComponentLink3URL: http://pdfserv.maxim-ic.com/package_dwgs/21-0076.PDF
footprint X5+1_N (SOT353, 5-Leads, Body 2x1.3mm, Pitch 0.65mm, Lead Span 2.1mm, IPC Medium Density)
footprint X5+1_L (SOT353, 5-Leads, Body 2x1.3mm, Pitch 0.65mm, Lead Span 2.1mm, IPC High Density)
footprint X5+1_M (SOT353, 5-Leads, Body 2x1.3mm, Pitch 0.65mm, Lead Span 2.1mm, IPC Low Density)
pins: 1 IN (power), 2 GND (power), 3 ~{SHDN} (in), 4 NC, 5 OUT (power)

## MAX8511EXK15+T
designator U?
Ultra-Low-Noise, High PSRR, Low-Dropout, 120mA Linear Regulator, 1.5V Out, 5-Pin SC70, -40°C to +85°C, Pb-Free, Tape and Reel; DatasheetVersion: Rev 4, Aug-2011; PackageVersion: revE, 2006; PackageReference: X5+1; PackageDescription: 5-Pin SC70 Transistor Package, 0.65 mm Pitch, 2.2 mm Lead Span; Code_JEDEC: MO-203; ComponentLink1Description: Manufacturer URL; ComponentLink1URL: http://www.maxim-ic.com; ComponentLink2Description: Datasheet; ComponentLink2URL: http://datasheets.maxim-ic.com/en/ds/MAX8510-MAX8512.pdf; ComponentLink3Description: Package Specification; ComponentLink3URL: http://pdfserv.maxim-ic.com/package_dwgs/21-0076.PDF
footprint X5+1_N (SOT353, 5-Leads, Body 2x1.3mm, Pitch 0.65mm, Lead Span 2.1mm, IPC Medium Density)
footprint X5+1_L (SOT353, 5-Leads, Body 2x1.3mm, Pitch 0.65mm, Lead Span 2.1mm, IPC High Density)
footprint X5+1_M (SOT353, 5-Leads, Body 2x1.3mm, Pitch 0.65mm, Lead Span 2.1mm, IPC Low Density)
pins: 1 IN (power), 2 GND (power), 3 ~{SHDN} (in), 4 NC, 5 OUT (power)

## MAX8511EXK15-T
designator U?
Ultra-Low-Noise, High PSRR, Low-Dropout, 120mA Linear Regulator, 1.5V Out, 5-Pin SC70, -40°C to +85°C, Tape and Reel; DatasheetVersion: Rev 4, Aug-2011; PackageVersion: revE, 2006; PackageReference: X5-1; PackageDescription: 5-Pin SC70 Transistor Package, 0.65 mm Pitch, 2.2 mm Lead Span; Code_JEDEC: MO-203; ComponentLink1Description: Manufacturer URL; ComponentLink1URL: http://www.maxim-ic.com; ComponentLink2Description: Datasheet; ComponentLink2URL: http://datasheets.maxim-ic.com/en/ds/MAX8510-MAX8512.pdf; ComponentLink3Description: Package Specification; ComponentLink3URL: http://pdfserv.maxim-ic.com/package_dwgs/21-0076.PDF
footprint X5-1_N (SOT353, 5-Leads, Body 2x1.3mm, Pitch 0.65mm, Lead Span 2.1mm, IPC Medium Density)
footprint X5-1_L (SOT353, 5-Leads, Body 2x1.3mm, Pitch 0.65mm, Lead Span 2.1mm, IPC High Density)
footprint X5-1_M (SOT353, 5-Leads, Body 2x1.3mm, Pitch 0.65mm, Lead Span 2.1mm, IPC Low Density)
pins: 1 IN (power), 2 GND (power), 3 ~{SHDN} (in), 4 NC, 5 OUT (power)

## MAX8511EXK18+
designator U?
Ultra-Low-Noise, High PSRR, Low-Dropout, 120mA Linear Regulator, 1.8V Out, 5-Pin SC70, -40°C to +85°C, Pb-Free; DatasheetVersion: Rev 4, Aug-2011; PackageVersion: revE, 2006; PackageReference: X5+1; PackageDescription: 5-Pin SC70 Transistor Package, 0.65 mm Pitch, 2.2 mm Lead Span; Code_JEDEC: MO-203; ComponentLink1Description: Manufacturer URL; ComponentLink1URL: http://www.maxim-ic.com; ComponentLink2Description: Datasheet; ComponentLink2URL: http://datasheets.maxim-ic.com/en/ds/MAX8510-MAX8512.pdf; ComponentLink3Description: Package Specification; ComponentLink3URL: http://pdfserv.maxim-ic.com/package_dwgs/21-0076.PDF
footprint X5+1_N (SOT353, 5-Leads, Body 2x1.3mm, Pitch 0.65mm, Lead Span 2.1mm, IPC Medium Density)
footprint X5+1_L (SOT353, 5-Leads, Body 2x1.3mm, Pitch 0.65mm, Lead Span 2.1mm, IPC High Density)
footprint X5+1_M (SOT353, 5-Leads, Body 2x1.3mm, Pitch 0.65mm, Lead Span 2.1mm, IPC Low Density)
pins: 1 IN (power), 2 GND (power), 3 ~{SHDN} (in), 4 NC, 5 OUT (power)

## MAX8511EXK18+T
designator U?
Ultra-Low-Noise, High PSRR, Low-Dropout, 120mA Linear Regulator, 1.8V Out, 5-Pin SC70, -40°C to +85°C, Pb-Free, Tape and Reel; DatasheetVersion: Rev 4, Aug-2011; PackageVersion: revE, 2006; PackageReference: X5+1; PackageDescription: 5-Pin SC70 Transistor Package, 0.65 mm Pitch, 2.2 mm Lead Span; Code_JEDEC: MO-203; ComponentLink1Description: Manufacturer URL; ComponentLink1URL: http://www.maxim-ic.com; ComponentLink2Description: Datasheet; ComponentLink2URL: http://datasheets.maxim-ic.com/en/ds/MAX8510-MAX8512.pdf; ComponentLink3Description: Package Specification; ComponentLink3URL: http://pdfserv.maxim-ic.com/package_dwgs/21-0076.PDF
footprint X5+1_N (SOT353, 5-Leads, Body 2x1.3mm, Pitch 0.65mm, Lead Span 2.1mm, IPC Medium Density)
footprint X5+1_L (SOT353, 5-Leads, Body 2x1.3mm, Pitch 0.65mm, Lead Span 2.1mm, IPC High Density)
footprint X5+1_M (SOT353, 5-Leads, Body 2x1.3mm, Pitch 0.65mm, Lead Span 2.1mm, IPC Low Density)
pins: 1 IN (power), 2 GND (power), 3 ~{SHDN} (in), 4 NC, 5 OUT (power)

## MAX8511EXK18+TG104
designator U?
Ultra-Low-Noise, High PSRR, Low-Dropout, 120mA Linear Regulator, 1.8V Out, 5-Pin SC70, -40°C to +85°C, Pb-Free, Tape and Reel; DatasheetVersion: Rev 4, Aug-2011; PackageVersion: revE, 2006; PackageReference: X5+1; PackageDescription: 5-Pin SC70 Transistor Package, 0.65 mm Pitch, 2.2 mm Lead Span; Code_JEDEC: MO-203; ComponentLink1Description: Manufacturer URL; ComponentLink1URL: http://www.maxim-ic.com; ComponentLink2Description: Datasheet; ComponentLink2URL: http://datasheets.maxim-ic.com/en/ds/MAX8510-MAX8512.pdf; ComponentLink3Description: Package Specification; ComponentLink3URL: http://pdfserv.maxim-ic.com/package_dwgs/21-0076.PDF
footprint X5+1_N (SOT353, 5-Leads, Body 2x1.3mm, Pitch 0.65mm, Lead Span 2.1mm, IPC Medium Density)
footprint X5+1_L (SOT353, 5-Leads, Body 2x1.3mm, Pitch 0.65mm, Lead Span 2.1mm, IPC High Density)
footprint X5+1_M (SOT353, 5-Leads, Body 2x1.3mm, Pitch 0.65mm, Lead Span 2.1mm, IPC Low Density)
pins: 1 IN (power), 2 GND (power), 3 ~{SHDN} (in), 4 NC, 5 OUT (power)

## MAX8511EXK18-T
designator U?
Ultra-Low-Noise, High PSRR, Low-Dropout, 120mA Linear Regulator, 1.8V Out, 5-Pin SC70, -40°C to +85°C, Tape and Reel; DatasheetVersion: Rev 4, Aug-2011; PackageVersion: revE, 2006; PackageReference: X5-1; PackageDescription: 5-Pin SC70 Transistor Package, 0.65 mm Pitch, 2.2 mm Lead Span; Code_JEDEC: MO-203; ComponentLink1Description: Manufacturer URL; ComponentLink1URL: http://www.maxim-ic.com; ComponentLink2Description: Datasheet; ComponentLink2URL: http://datasheets.maxim-ic.com/en/ds/MAX8510-MAX8512.pdf; ComponentLink3Description: Package Specification; ComponentLink3URL: http://pdfserv.maxim-ic.com/package_dwgs/21-0076.PDF
footprint X5-1_N (SOT353, 5-Leads, Body 2x1.3mm, Pitch 0.65mm, Lead Span 2.1mm, IPC Medium Density)
footprint X5-1_L (SOT353, 5-Leads, Body 2x1.3mm, Pitch 0.65mm, Lead Span 2.1mm, IPC High Density)
footprint X5-1_M (SOT353, 5-Leads, Body 2x1.3mm, Pitch 0.65mm, Lead Span 2.1mm, IPC Low Density)
pins: 1 IN (power), 2 GND (power), 3 ~{SHDN} (in), 4 NC, 5 OUT (power)

## MAX8511EXK25+T
designator U?
Ultra-Low-Noise, High PSRR, Low-Dropout, 120mA Linear Regulator, 2.5V Out, 5-Pin SC70, -40°C to +85°C, Pb-Free, Tape and Reel; DatasheetVersion: Rev 4, Aug-2011; PackageVersion: revE, 2006; PackageReference: X5+1; PackageDescription: 5-Pin SC70 Transistor Package, 0.65 mm Pitch, 2.2 mm Lead Span; Code_JEDEC: MO-203; ComponentLink1Description: Manufacturer URL; ComponentLink1URL: http://www.maxim-ic.com; ComponentLink2Description: Datasheet; ComponentLink2URL: http://datasheets.maxim-ic.com/en/ds/MAX8510-MAX8512.pdf; ComponentLink3Description: Package Specification; ComponentLink3URL: http://pdfserv.maxim-ic.com/package_dwgs/21-0076.PDF
footprint X5+1_N (SOT353, 5-Leads, Body 2x1.3mm, Pitch 0.65mm, Lead Span 2.1mm, IPC Medium Density)
footprint X5+1_L (SOT353, 5-Leads, Body 2x1.3mm, Pitch 0.65mm, Lead Span 2.1mm, IPC High Density)
footprint X5+1_M (SOT353, 5-Leads, Body 2x1.3mm, Pitch 0.65mm, Lead Span 2.1mm, IPC Low Density)
pins: 1 IN (power), 2 GND (power), 3 ~{SHDN} (in), 4 NC, 5 OUT (power)

## MAX8511EXK25-T
designator U?
Ultra-Low-Noise, High PSRR, Low-Dropout, 120mA Linear Regulator, 2.5V Out, 5-Pin SC70, -40°C to +85°C, Tape and Reel; DatasheetVersion: Rev 4, Aug-2011; PackageVersion: revE, 2006; PackageReference: X5-1; PackageDescription: 5-Pin SC70 Transistor Package, 0.65 mm Pitch, 2.2 mm Lead Span; Code_JEDEC: MO-203; ComponentLink1Description: Manufacturer URL; ComponentLink1URL: http://www.maxim-ic.com; ComponentLink2Description: Datasheet; ComponentLink2URL: http://datasheets.maxim-ic.com/en/ds/MAX8510-MAX8512.pdf; ComponentLink3Description: Package Specification; ComponentLink3URL: http://pdfserv.maxim-ic.com/package_dwgs/21-0076.PDF
footprint X5-1_N (SOT353, 5-Leads, Body 2x1.3mm, Pitch 0.65mm, Lead Span 2.1mm, IPC Medium Density)
footprint X5-1_L (SOT353, 5-Leads, Body 2x1.3mm, Pitch 0.65mm, Lead Span 2.1mm, IPC High Density)
footprint X5-1_M (SOT353, 5-Leads, Body 2x1.3mm, Pitch 0.65mm, Lead Span 2.1mm, IPC Low Density)
pins: 1 IN (power), 2 GND (power), 3 ~{SHDN} (in), 4 NC, 5 OUT (power)

## MAX8511EXK26+
designator U?
Ultra-Low-Noise, High PSRR, Low-Dropout, 120mA Linear Regulator, 2.6V Out, 5-Pin SC70, -40°C to +85°C, Pb-Free; DatasheetVersion: Rev 4, Aug-2011; PackageVersion: revE, 2006; PackageReference: X5+1; PackageDescription: 5-Pin SC70 Transistor Package, 0.65 mm Pitch, 2.2 mm Lead Span; Code_JEDEC: MO-203; ComponentLink1Description: Manufacturer URL; ComponentLink1URL: http://www.maxim-ic.com; ComponentLink2Description: Datasheet; ComponentLink2URL: http://datasheets.maxim-ic.com/en/ds/MAX8510-MAX8512.pdf; ComponentLink3Description: Package Specification; ComponentLink3URL: http://pdfserv.maxim-ic.com/package_dwgs/21-0076.PDF
footprint X5+1_N (SOT353, 5-Leads, Body 2x1.3mm, Pitch 0.65mm, Lead Span 2.1mm, IPC Medium Density)
footprint X5+1_L (SOT353, 5-Leads, Body 2x1.3mm, Pitch 0.65mm, Lead Span 2.1mm, IPC High Density)
footprint X5+1_M (SOT353, 5-Leads, Body 2x1.3mm, Pitch 0.65mm, Lead Span 2.1mm, IPC Low Density)
pins: 1 IN (power), 2 GND (power), 3 ~{SHDN} (in), 4 NC, 5 OUT (power)

## MAX8511EXK26+T
designator U?
Ultra-Low-Noise, High PSRR, Low-Dropout, 120mA Linear Regulator, 2.6V Out, 5-Pin SC70, -40°C to +85°C, Pb-Free, Tape and Reel; DatasheetVersion: Rev 4, Aug-2011; PackageVersion: revE, 2006; PackageReference: X5+1; PackageDescription: 5-Pin SC70 Transistor Package, 0.65 mm Pitch, 2.2 mm Lead Span; Code_JEDEC: MO-203; ComponentLink1Description: Manufacturer URL; ComponentLink1URL: http://www.maxim-ic.com; ComponentLink2Description: Datasheet; ComponentLink2URL: http://datasheets.maxim-ic.com/en/ds/MAX8510-MAX8512.pdf; ComponentLink3Description: Package Specification; ComponentLink3URL: http://pdfserv.maxim-ic.com/package_dwgs/21-0076.PDF
footprint X5+1_N (SOT353, 5-Leads, Body 2x1.3mm, Pitch 0.65mm, Lead Span 2.1mm, IPC Medium Density)
footprint X5+1_L (SOT353, 5-Leads, Body 2x1.3mm, Pitch 0.65mm, Lead Span 2.1mm, IPC High Density)
footprint X5+1_M (SOT353, 5-Leads, Body 2x1.3mm, Pitch 0.65mm, Lead Span 2.1mm, IPC Low Density)
pins: 1 IN (power), 2 GND (power), 3 ~{SHDN} (in), 4 NC, 5 OUT (power)

## MAX8511EXK26-T
designator U?
Ultra-Low-Noise, High PSRR, Low-Dropout, 120mA Linear Regulator, 2.6V Out, 5-Pin SC70, -40°C to +85°C, Tape and Reel; DatasheetVersion: Rev 4, Aug-2011; PackageVersion: revE, 2006; PackageReference: X5-1; PackageDescription: 5-Pin SC70 Transistor Package, 0.65 mm Pitch, 2.2 mm Lead Span; Code_JEDEC: MO-203; ComponentLink1Description: Manufacturer URL; ComponentLink1URL: http://www.maxim-ic.com; ComponentLink2Description: Datasheet; ComponentLink2URL: http://datasheets.maxim-ic.com/en/ds/MAX8510-MAX8512.pdf; ComponentLink3Description: Package Specification; ComponentLink3URL: http://pdfserv.maxim-ic.com/package_dwgs/21-0076.PDF
footprint X5-1_N (SOT353, 5-Leads, Body 2x1.3mm, Pitch 0.65mm, Lead Span 2.1mm, IPC Medium Density)
footprint X5-1_L (SOT353, 5-Leads, Body 2x1.3mm, Pitch 0.65mm, Lead Span 2.1mm, IPC High Density)
footprint X5-1_M (SOT353, 5-Leads, Body 2x1.3mm, Pitch 0.65mm, Lead Span 2.1mm, IPC Low Density)
pins: 1 IN (power), 2 GND (power), 3 ~{SHDN} (in), 4 NC, 5 OUT (power)

## MAX8511EXK28+
designator U?
Ultra-Low-Noise, High PSRR, Low-Dropout, 120mA Linear Regulator, 2.8V Out, 5-Pin SC70, -40°C to +85°C, Pb-Free; DatasheetVersion: Rev 4, Aug-2011; PackageVersion: revE, 2006; PackageReference: X5+1; PackageDescription: 5-Pin SC70 Transistor Package, 0.65 mm Pitch, 2.2 mm Lead Span; Code_JEDEC: MO-203; ComponentLink1Description: Manufacturer URL; ComponentLink1URL: http://www.maxim-ic.com; ComponentLink2Description: Datasheet; ComponentLink2URL: http://datasheets.maxim-ic.com/en/ds/MAX8510-MAX8512.pdf; ComponentLink3Description: Package Specification; ComponentLink3URL: http://pdfserv.maxim-ic.com/package_dwgs/21-0076.PDF
footprint X5+1_N (SOT353, 5-Leads, Body 2x1.3mm, Pitch 0.65mm, Lead Span 2.1mm, IPC Medium Density)
footprint X5+1_L (SOT353, 5-Leads, Body 2x1.3mm, Pitch 0.65mm, Lead Span 2.1mm, IPC High Density)
footprint X5+1_M (SOT353, 5-Leads, Body 2x1.3mm, Pitch 0.65mm, Lead Span 2.1mm, IPC Low Density)
pins: 1 IN (power), 2 GND (power), 3 ~{SHDN} (in), 4 NC, 5 OUT (power)

## MAX8511EXK28+T
designator U?
Ultra-Low-Noise, High PSRR, Low-Dropout, 120mA Linear Regulator, 2.8V Out, 5-Pin SC70, -40°C to +85°C, Pb-Free, Tape and Reel; DatasheetVersion: Rev 4, Aug-2011; PackageVersion: revE, 2006; PackageReference: X5+1; PackageDescription: 5-Pin SC70 Transistor Package, 0.65 mm Pitch, 2.2 mm Lead Span; Code_JEDEC: MO-203; ComponentLink1Description: Manufacturer URL; ComponentLink1URL: http://www.maxim-ic.com; ComponentLink2Description: Datasheet; ComponentLink2URL: http://datasheets.maxim-ic.com/en/ds/MAX8510-MAX8512.pdf; ComponentLink3Description: Package Specification; ComponentLink3URL: http://pdfserv.maxim-ic.com/package_dwgs/21-0076.PDF
footprint X5+1_N (SOT353, 5-Leads, Body 2x1.3mm, Pitch 0.65mm, Lead Span 2.1mm, IPC Medium Density)
footprint X5+1_L (SOT353, 5-Leads, Body 2x1.3mm, Pitch 0.65mm, Lead Span 2.1mm, IPC High Density)
footprint X5+1_M (SOT353, 5-Leads, Body 2x1.3mm, Pitch 0.65mm, Lead Span 2.1mm, IPC Low Density)
pins: 1 IN (power), 2 GND (power), 3 ~{SHDN} (in), 4 NC, 5 OUT (power)

## MAX8511EXK29+
designator U?
Ultra-Low-Noise, High PSRR, Low-Dropout, 120mA Linear Regulator, 2.85V Out, 5-Pin SC70, -40°C to +85°C, Pb-Free; DatasheetVersion: Rev 4, Aug-2011; PackageVersion: revE, 2006; PackageReference: X5+1; PackageDescription: 5-Pin SC70 Transistor Package, 0.65 mm Pitch, 2.2 mm Lead Span; Code_JEDEC: MO-203; ComponentLink1Description: Manufacturer URL; ComponentLink1URL: http://www.maxim-ic.com; ComponentLink2Description: Datasheet; ComponentLink2URL: http://datasheets.maxim-ic.com/en/ds/MAX8510-MAX8512.pdf; ComponentLink3Description: Package Specification; ComponentLink3URL: http://pdfserv.maxim-ic.com/package_dwgs/21-0076.PDF
footprint X5+1_N (SOT353, 5-Leads, Body 2x1.3mm, Pitch 0.65mm, Lead Span 2.1mm, IPC Medium Density)
footprint X5+1_L (SOT353, 5-Leads, Body 2x1.3mm, Pitch 0.65mm, Lead Span 2.1mm, IPC High Density)
footprint X5+1_M (SOT353, 5-Leads, Body 2x1.3mm, Pitch 0.65mm, Lead Span 2.1mm, IPC Low Density)
pins: 1 IN (power), 2 GND (power), 3 ~{SHDN} (in), 4 NC, 5 OUT (power)

## MAX8511EXK29+T
designator U?
Ultra-Low-Noise, High PSRR, Low-Dropout, 120mA Linear Regulator, 2.85V Out, 5-Pin SC70, -40°C to +85°C, Pb-Free, Tape and Reel; DatasheetVersion: Rev 4, Aug-2011; PackageVersion: revE, 2006; PackageReference: X5+1; PackageDescription: 5-Pin SC70 Transistor Package, 0.65 mm Pitch, 2.2 mm Lead Span; Code_JEDEC: MO-203; ComponentLink1Description: Manufacturer URL; ComponentLink1URL: http://www.maxim-ic.com; ComponentLink2Description: Datasheet; ComponentLink2URL: http://datasheets.maxim-ic.com/en/ds/MAX8510-MAX8512.pdf; ComponentLink3Description: Package Specification; ComponentLink3URL: http://pdfserv.maxim-ic.com/package_dwgs/21-0076.PDF
footprint X5+1_N (SOT353, 5-Leads, Body 2x1.3mm, Pitch 0.65mm, Lead Span 2.1mm, IPC Medium Density)
footprint X5+1_L (SOT353, 5-Leads, Body 2x1.3mm, Pitch 0.65mm, Lead Span 2.1mm, IPC High Density)
footprint X5+1_M (SOT353, 5-Leads, Body 2x1.3mm, Pitch 0.65mm, Lead Span 2.1mm, IPC Low Density)
pins: 1 IN (power), 2 GND (power), 3 ~{SHDN} (in), 4 NC, 5 OUT (power)

## MAX8511EXK29-T
designator U?
Ultra-Low-Noise, High PSRR, Low-Dropout, 120mA Linear Regulator, 2.85V Out, 5-Pin SC70, -40°C to +85°C, Tape and Reel; DatasheetVersion: Rev 4, Aug-2011; PackageVersion: revE, 2006; PackageReference: X5-1; PackageDescription: 5-Pin SC70 Transistor Package, 0.65 mm Pitch, 2.2 mm Lead Span; Code_JEDEC: MO-203; ComponentLink1Description: Manufacturer URL; ComponentLink1URL: http://www.maxim-ic.com; ComponentLink2Description: Datasheet; ComponentLink2URL: http://datasheets.maxim-ic.com/en/ds/MAX8510-MAX8512.pdf; ComponentLink3Description: Package Specification; ComponentLink3URL: http://pdfserv.maxim-ic.com/package_dwgs/21-0076.PDF
footprint X5-1_N (SOT353, 5-Leads, Body 2x1.3mm, Pitch 0.65mm, Lead Span 2.1mm, IPC Medium Density)
footprint X5-1_L (SOT353, 5-Leads, Body 2x1.3mm, Pitch 0.65mm, Lead Span 2.1mm, IPC High Density)
footprint X5-1_M (SOT353, 5-Leads, Body 2x1.3mm, Pitch 0.65mm, Lead Span 2.1mm, IPC Low Density)
pins: 1 IN (power), 2 GND (power), 3 ~{SHDN} (in), 4 NC, 5 OUT (power)

## MAX8511EXK30+T
designator U?
Ultra-Low-Noise, High PSRR, Low-Dropout, 120mA Linear Regulator, 3V Out, 5-Pin SC70, -40°C to +85°C, Pb-Free, Tape and Reel; DatasheetVersion: Rev 4, Aug-2011; PackageVersion: revE, 2006; PackageReference: X5+1; PackageDescription: 5-Pin SC70 Transistor Package, 0.65 mm Pitch, 2.2 mm Lead Span; Code_JEDEC: MO-203; ComponentLink1Description: Manufacturer URL; ComponentLink1URL: http://www.maxim-ic.com; ComponentLink2Description: Datasheet; ComponentLink2URL: http://datasheets.maxim-ic.com/en/ds/MAX8510-MAX8512.pdf; ComponentLink3Description: Package Specification; ComponentLink3URL: http://pdfserv.maxim-ic.com/package_dwgs/21-0076.PDF
footprint X5+1_N (SOT353, 5-Leads, Body 2x1.3mm, Pitch 0.65mm, Lead Span 2.1mm, IPC Medium Density)
footprint X5+1_L (SOT353, 5-Leads, Body 2x1.3mm, Pitch 0.65mm, Lead Span 2.1mm, IPC High Density)
footprint X5+1_M (SOT353, 5-Leads, Body 2x1.3mm, Pitch 0.65mm, Lead Span 2.1mm, IPC Low Density)
pins: 1 IN (power), 2 GND (power), 3 ~{SHDN} (in), 4 NC, 5 OUT (power)

## MAX8511EXK31+T
designator U?
Ultra-Low-Noise, High PSRR, Low-Dropout, 120mA Linear Regulator, 3.1V Out, 5-Pin SC70, -40°C to +85°C, Pb-Free, Tape and Reel; DatasheetVersion: Rev 4, Aug-2011; PackageVersion: revE, 2006; PackageReference: X5+1; PackageDescription: 5-Pin SC70 Transistor Package, 0.65 mm Pitch, 2.2 mm Lead Span; Code_JEDEC: MO-203; ComponentLink1Description: Manufacturer URL; ComponentLink1URL: http://www.maxim-ic.com; ComponentLink2Description: Datasheet; ComponentLink2URL: http://datasheets.maxim-ic.com/en/ds/MAX8510-MAX8512.pdf; ComponentLink3Description: Package Specification; ComponentLink3URL: http://pdfserv.maxim-ic.com/package_dwgs/21-0076.PDF
footprint X5+1_N (SOT353, 5-Leads, Body 2x1.3mm, Pitch 0.65mm, Lead Span 2.1mm, IPC Medium Density)
footprint X5+1_L (SOT353, 5-Leads, Body 2x1.3mm, Pitch 0.65mm, Lead Span 2.1mm, IPC High Density)
footprint X5+1_M (SOT353, 5-Leads, Body 2x1.3mm, Pitch 0.65mm, Lead Span 2.1mm, IPC Low Density)
pins: 1 IN (power), 2 GND (power), 3 ~{SHDN} (in), 4 NC, 5 OUT (power)

## MAX8511EXK33+
designator U?
Ultra-Low-Noise, High PSRR, Low-Dropout, 120mA Linear Regulator, 3.3V Out, 5-Pin SC70, -40°C to +85°C, Pb-Free; DatasheetVersion: Rev 4, Aug-2011; PackageVersion: revE, 2006; PackageReference: X5+1; PackageDescription: 5-Pin SC70 Transistor Package, 0.65 mm Pitch, 2.2 mm Lead Span; Code_JEDEC: MO-203; ComponentLink1Description: Manufacturer URL; ComponentLink1URL: http://www.maxim-ic.com; ComponentLink2Description: Datasheet; ComponentLink2URL: http://datasheets.maxim-ic.com/en/ds/MAX8510-MAX8512.pdf; ComponentLink3Description: Package Specification; ComponentLink3URL: http://pdfserv.maxim-ic.com/package_dwgs/21-0076.PDF
footprint X5+1_N (SOT353, 5-Leads, Body 2x1.3mm, Pitch 0.65mm, Lead Span 2.1mm, IPC Medium Density)
footprint X5+1_L (SOT353, 5-Leads, Body 2x1.3mm, Pitch 0.65mm, Lead Span 2.1mm, IPC High Density)
footprint X5+1_M (SOT353, 5-Leads, Body 2x1.3mm, Pitch 0.65mm, Lead Span 2.1mm, IPC Low Density)
pins: 1 IN (power), 2 GND (power), 3 ~{SHDN} (in), 4 NC, 5 OUT (power)